# Altium schematic symbol library CRCW12101K47FKEA.schlib: 1 symbol
Pins are listed as number, name and electrical type; pins without a type are passive.

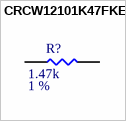
[diagram p0: symbol CRCW12101K47FKEA]

## CRCW12101K47FKEA
designator R?  Tolerance: 1 %  Resistance: 1.47k  (hidden comment: CRCW12101K47FKEA)
RES SMD 1.47K OHM 1% 1/2W 1210; MFR: Vishay; Qualifications: Automotive Grade; ComponentLink1Description: Datasheet; ComponentLink1URL: https://www.mouser.ca/datasheet/2/427/dcrcwe3-1762152.pdf; Footprint: RES1210; PN: CRCW12101K47FKEA; Power Rating: 1/2W; Package: 1210; Supplier 1: Digi-Key; Supplier Part Number 1: 541-1.47KAACT-ND
footprint RES1210 (Generic 1210e3 Footprint)
pins: 1, 2